# EAGLE library part LV-MAXSONAR (library Dek)
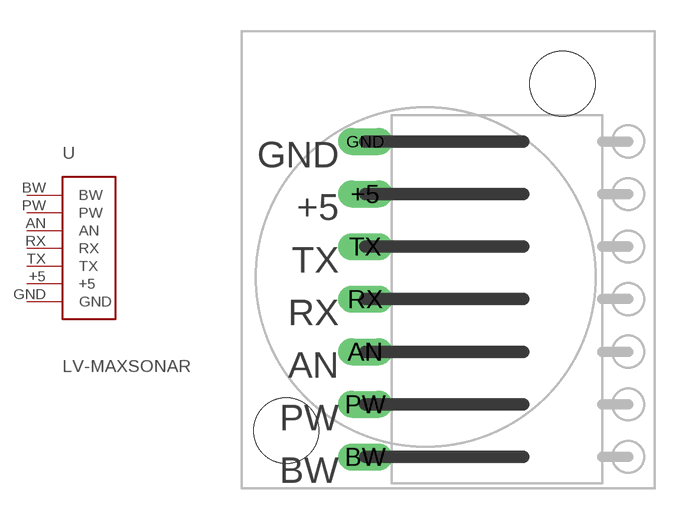
[diagram p11: symbol with the pads of LV-MAXSONAR; footprint LV-MAXSONAR]

Designator prefix -

## LV-MAXSONARH  [LV-MAXSONAR]
+5  +5  pwr
AN  AN  out
BW  BW  in
GND  GND  pwr
PW  PW  out
RX  RX  in
TX  TX  out

## Footprint LV-MAXSONAR (pad centres in mm)
drill 0.8 long: +5 -13.97,13.97; AN -13.97,6.35; BW -13.97,1.27; GND -13.97,16.51; PW -13.97,3.81; RX -13.97,8.89; TX -13.97,11.43
hole 3.15 at -17.78,2.54
hole 3.15 at -4.445,19.304